# EAGLE library part RADIO-301A-RX-CONECT (library aoba)
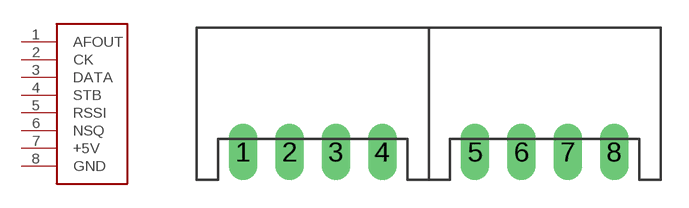
[diagram p11: symbol with the pads of RADIO-301A-RX-CONECT; footprint RADIO-301A-RX-CONECT]

Designator prefix -

## RADIO-301A-RX-CONECT  [RADIO-301A-RX-CONECT]
1  AFOUT
2  CK
3  DATA
4  STB
5  RSSI
6  NSQ
7  +5V
8  GND

## Footprint RADIO-301A-RX-CONECT (pad centres in mm)
drill 1.016 long: 1 -10,0; 2 -7.5,0; 3 -5,0; 4 -2.5,0; 5 2.5,0; 6 5,0; 7 7.5,0; 8 10,0